# Altium footprint library TSR22450.PcbLib: 1 footprints
Each footprint in its own frame and in the unit in brackets; x right, y up, seen from the top. Pads: shape width x height; smd on the part's side, far side on the other; paste and mask are expansions set on the pad; w line width, h text height; cw(c..) or ccw(c..) is an arc to the next point about the centre after c.
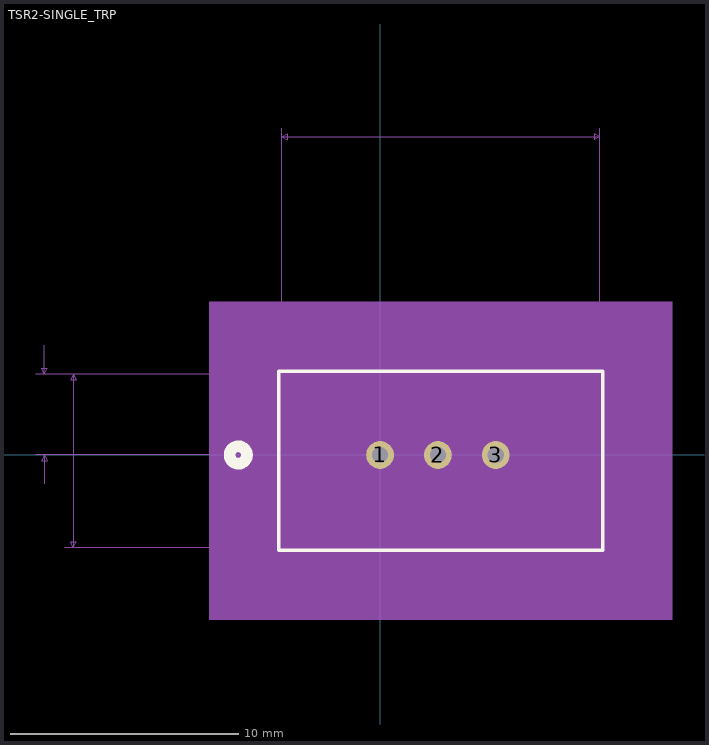
[diagram p0: the footprint, top view; thin cyan lines are the x and y axes]

## TSR2-SINGLE_TRP [mil]
pads (3):
  round 48 hole 28 mask+0: 1(0,0) 2(100,0) 3(200,0)
Top Overlay:
  circle w20: c-245,0 r15
  lines w6: -175,-165 385,-165 385,145 -175,145 -175,-165
Bottom Overlay:
  circle w20: c-245,0 r15
Mechanical 5:
  region: -295,265 505,265 505,-285 -295,-285
Mechanical 7:
  lines w1: -595,0 105,0 ; -595,140 -170,140 ; -580,-50 -580,0 ; -580,190 -580,140 ; -545,-160 -170,-160 ; -545,140 -170,140 ; -170,565 -170,140 ; -50,225 0,225 ; 0,240 0,0 ; 100,0 100,240 ; 150,225 100,225 ; 380,140 380,565 ; 480,-50 480,0 ; 480,50 480,0 ; -580,0 -585,-10 -575,-10 -580,0 ; -580,140 -585,150 -575,150 -580,140 ; -530,-160 -530,140 ; -530,-160 -535,-150 -525,-150 -530,-160 ; -530,140 -535,130 -525,130 -530,140 ; -170,550 380,550 ; -170,550 -160,555 -160,545 -170,550 ; 0,0 495,0 0,0 ; 0,225 -10,230 -10,220 0,225 ; 100,225 110,230 110,220 100,225 ; 380,550 370,555 370,545 380,550 ; 480,0 475,10 485,10 480,0 ; 480,0 475,-10 485,-10 480,0
  text "Default Padstyle: EX48Y48D28P" at -257.5,-320 h50
  text "1st Mtg Padstyle: RX110Y80D50P" at -270,-395 h50
  text "2nd Mtg Padstyle: EX70Y70D70P" at -257.5,-470 h50
  text "3rd Mtg Padstyle: EX70Y70D70P" at -257.5,-545 h50
  text "Left Mtg Padstyle: EX60Y60D30P" at -270,-620 h50
  text "Right Mtg Padstyle: EX60Y60D30P" at -282.5,-695 h50
  text "Alt Padstyle 1: OX60Y90D30P" at -232.5,-770 h50
  text "Alt Padstyle 2: OX90Y60D30P" at -232.5,-845 h50
  text "0.1in/2.54mm" at -72.5,245 h25
  text "0.55in/13.97mm" at 17.5,570 h25
  text "0in/0mm" at 500,-12.5 h25
  text "0.14in/3.556mm" at -775,57.5 h25
  text "0.3in/7.62mm" at -700,-22.5 h25
Mechanical 13:
  circle w20: c0,75 r15
  lines w1: -170,-160 380,-160 380,140 -170,140 -170,-160
Mechanical 15:
  region: 390,150 -180,150 -180,-170 390,-170
  lines w6: -180,-170 -180,150 390,150 390,-170 -180,-170
3D body: height 10, standoff 0, extent 0,0 10,10